# EAGLE library part ULN2003APWR (library ULN2003APWR)
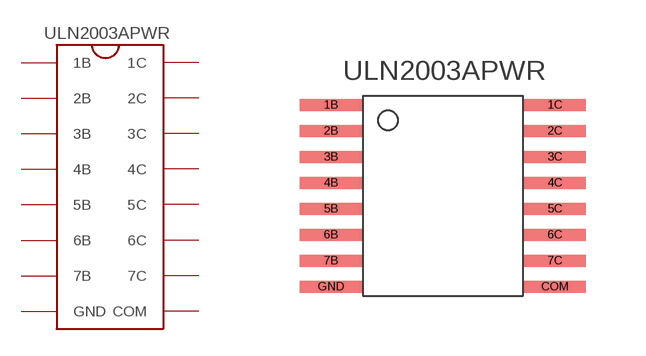
[diagram p0: symbol with the pads of ULN2003APWR; footprint ULN2003APWR]

Designator prefix -

## ULN2003APWR  [ULN2003APWR]
1B  1B
1C  1C
2B  2B
2C  2C
3B  3B
3C  3C
4B  4B
4C  4C
5B  5B
5C  5C
6B  6B
6C  6C
7B  7B
7C  7C
COM  COM
GND  GND

## Footprint ULN2003APWR (pad centres in mm)
smd 1.55 x 0.3: 1B -2.8,2.275; 1C 2.8,2.275; 2B -2.8,1.625; 2C 2.8,1.625; 3B -2.8,0.975; 3C 2.8,0.975; 4B -2.8,0.325; 4C 2.8,0.325; 5B -2.8,-0.325; 5C 2.8,-0.325; 6B -2.8,-0.975; 6C 2.8,-0.975; 7B -2.8,-1.625; 7C 2.8,-1.625; COM 2.8,-2.275; GND -2.8,-2.275